# Altium schematic symbol library RES.SchLib: 149 symbols (part 2 of 2)
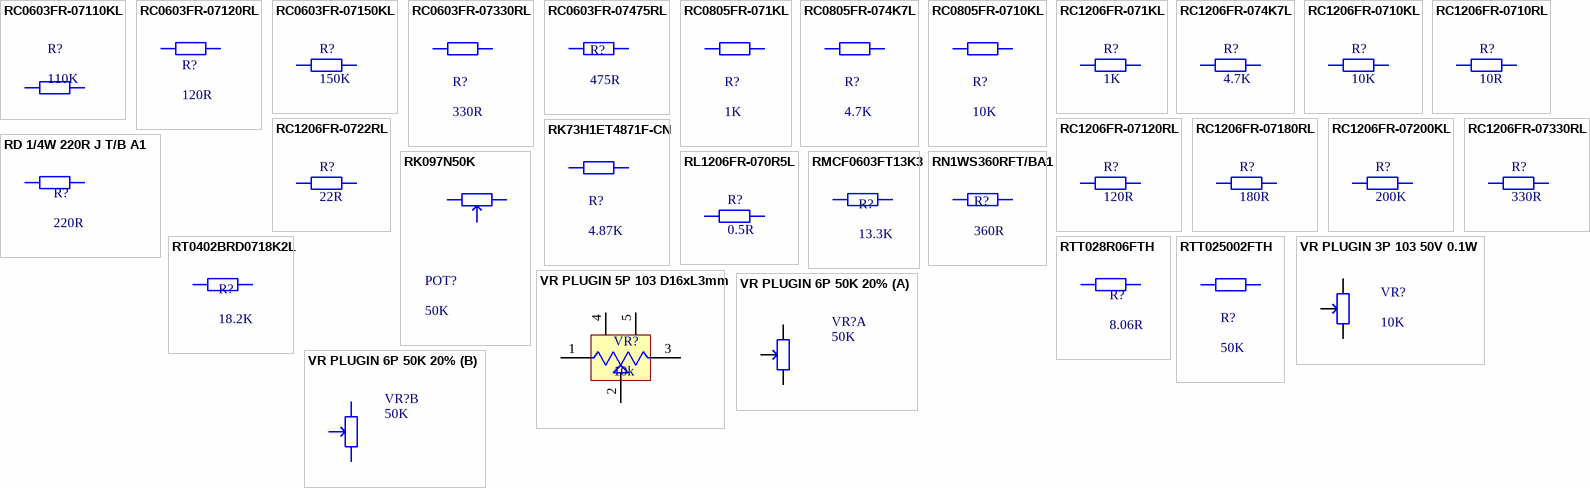
[diagram p4: symbols RC0603FR-07110KL to VR PLUGIN 6P 50K 20%]

## RC0805FR-074K7L
designator R?, comment 4.7K
125mW 4.7kΩ 150V ±100ppm/℃ Thick Film Resistor ±1% 0805 Chip Resistor - Surface Mount RoHS; Manufacturer: YAGEO; Mfr.Part #: RC0805FR-074K7L; Package: 0805; LCSC Part #: C60816; DigiKey Part Number: 311-4.70KCRTR-ND
footprint RES-0805-1
footprint RES-0805
pins: 1, 2

## RC0805FR-0710KL
designator R?, comment 10K
125mW 10kΩ 150V ±100ppm/℃ Thick Film Resistor ±1% 0805 Chip Resistor - Surface Mount RoHS; Manufacturer: YAGEO; Mfr.Part #: RC0805FR-0710KL; Package: 0805; LCSC Part #: C84376; DigiKey Part Number: 311-10.0KCRTR-ND
footprint RES-0805-1
footprint RES-0805
pins: 1, 2

## RC1206FR-071KL
designator R?, comment 1K
1kΩ 250mW 200V Thick Film Resistor ±100ppm/℃ ±1% 1206 Chip Resistor - Surface Mount RoHS; Manufacturer: YAGEO; Mfr.Part #: RC1206FR-071KL; LCSC Part #: C131398; Package: 1206; DigiKey Part Number: 311-1.00KFRTR-ND
footprint RES-1206
pins: 1, 2

## RC1206FR-074K7L
designator R?, comment 4.7K
4.7kΩ 250mW 200V Thick Film Resistor ±100ppm/℃ ±1% 1206 Chip Resistor - Surface Mount RoHS; Manufacturer: YAGEO; Mfr.Part #: RC1206FR-074K7L; Package: 1206; LCSC Part #: C137262; DigiKey Part Number: 311-4.70KFRTR-ND
footprint RES-1206
pins: 1, 2

## RC1206FR-0710KL
designator R?, comment 10K
250mW 10kΩ 200V Thick Film Resistor ±100ppm/℃ ±1% 1206 Chip Resistor - Surface Mount RoHS; Manufacturer: YAGEO; Mfr.Part #: RC1206FR-0710KL; LCSC Part #: C132649; Package: 1206; DigiKey Part Number: 311-10.0KFRTR-ND
footprint RES-1206
pins: 1, 2

## RC1206FR-0710RL
designator R?, comment 10R
10Ω 250mW 200V Thick Film Resistor ±1% ±200ppm/℃ 1206 Chip Resistor - Surface Mount RoHS; Manufacturer: YAGEO; Mfr.Part #: RC1206FR-0710RL; LCSC Part #: C108080; Package: 1206; DigiKey Part Number: 311-10.0FRTR-ND
footprint RES-1206
pins: 1, 2

## RC1206FR-0722RL
designator R?, comment 22R
22Ω 250mW 200V Thick Film Resistor ±100ppm/℃ ±1% 1206 Chip Resistor - Surface Mount RoHS; Manufacturer: YAGEO; Mfr.Part #: RC1206FR-0722RL; Package: 1206; LCSC Part #: C114943; DigiKey Part Number: 311-22.0FRTR-ND
footprint RES-1206
pins: 1, 2

## RC1206FR-07120RL
designator R?, comment 120R
120Ω 250mW 200V ±100ppm/℃ Thick Film Resistor ±1% 1206 Chip Resistor - Surface Mount RoHS; Manufacturer: YAGEO; Mfr.Part #: RC1206FR-07120RL; Package: 1206; LCSC Part #: C114928; DigiKey Part Number: 311-120FRTR-ND
footprint RES-1206
pins: 1, 2

## RC1206FR-07180RL
designator R?, comment 180R
180Ω 250mW 200V Thick Film Resistor ±100ppm/℃ ±1% 1206 Chip Resistor - Surface Mount RoHS; Manufacturer: YAGEO; Mfr.Part #: RC1206FR-07180RL; LCSC Part #: C137380; Package: 1206; DigiKey Part Number: 311-180FRTR-ND
footprint RES-1206
pins: 1, 2

## RC1206FR-07200KL
designator R?, comment 200K
200kΩ 250mW 200V Thick Film Resistor ±100ppm/℃ ±1% 1206 Chip Resistor - Surface Mount RoHS; Manufacturer: YAGEO; Mfr.Part #: RC1206FR-07200KL; Package: 1206; LCSC Part #: C114937; DigiKey Part Number: 311-200KFRTR-ND
footprint RES-1206
pins: 1, 2

## RC1206FR-07330RL
designator R?, comment 330R
250mW 330Ω 200V Thick Film Resistor ±100ppm/℃ ±1% 1206 Chip Resistor - Surface Mount RoHS; Manufacturer: YAGEO; Mfr.Part #: RC1206FR-07330RL; LCSC Part #: C114944; Package: 1206; DigiKey Part Number: 311-330FRTR-ND
footprint RES-1206
pins: 1, 2

## RD 1/4W 220R J T/B A1
designator R?, comment 220R
Carbon Film Resistor 220Ω 250mW 0ppm/℃~+500ppm/℃ ±5% Through Hole,D2.4xL6.5mm Through Hole Resistors ROHS; Manufacturer: TyoHM; Mfr.Part #: RD 1/4W 220R J T/B A1; Package: Through Hole,D2.4xL6.5mm; LCSC Part #: C433749; DigiKey Part Number: NO
footprint Plugin,D2.4xL6.5mm
pins: 1, 2

## RK73H1ET4871F-CN
designator R?, comment 4.87K
62.5mW 4.87kΩ Thick Film Resistor ±1% 0402 Chip Resistor - Surface Mount RoHS; Manufacturer: ChipNobo; Mfr.Part #: RK73H1ET4871F-CN; Package: 0402; LCSC Part #: C42396694; DigiKey Part Number: NO
footprint RES-0402
pins: 1, 2

## RK097N50K
designator POT?, comment 50K
±10%  50kΩ Through Hole Carbon Film Potentiometer; Mfr.Part #: RK097N50K; Manufacturer: uxcell; Package: Through Hole; LCSC Part #: NO; DigiKey Part Number: NO; ComponentLink1Description: Link; ComponentLink2Description: Link 1
footprint RK097N-1
pins: 1, 2, 3

## RL1206FR-070R5L
designator R?, comment 0.5R
250mW 500mΩ ±300ppm/℃ Thick Film Resistor ±1% 1206 Chip Resistor - Surface Mount RoHS; Manufacturer: YAGEO; Mfr.Part #: RL1206FR-070R5L; LCSC Part #: C327075; Package: 1206; DigiKey Part Number: 311-0.5LWTR-ND
footprint RES-1206
pins: 1, 2

## RMCF0603FT13K3
designator R?, comment 13.3K
13.3 kOhms ±1% 0.1W, 1/10W Chip Resistor 0603 (1608 Metric) Automotive AEC-Q200 Thick Film; Manufacturer: Stackpole Electronics Inc; Mfr.Part #: RMCF0603FT13K3; Package: 0603; DigiKey Part Number: RMCF0603FT13K3TR-ND
footprint RES-0603
pins: 1, 2

## RN1WS360RFT/BA1
designator R?, comment 360R
360Ω 1W 350V Metal Film Resistor ±50ppm/℃ ±1% Through Hole,D3.3xL9.2mm Through Hole Resistors RoHS; Manufacturer: YAGEO; Mfr.Part #: RN1WS360ΩFT/BA1; Package: Through Hole,D3.3xL9.2mm; LCSC Part #: C385379; DigiKey Part Number: NO; ComponentLink1Description: Link; ComponentLink1URL: https://www.lcsc.com/product-detail/C108661.html?s_z=n_33r; ComponentLink2Description: Link 1
footprint Plugin,D3.3xL9.2mm
pins: 1, 2

## RT0402BRD0718K2L
designator R?, comment 18.2K
62.5mW Thin Film Resistor 50V ±25ppm/℃ ±0.1% 18.2kΩ 0402 Chip Resistor - Surface Mount ROHS; Manufacturer: YAGEO; Mfr.Part #: RT0402BRD0718K2L; Package: 0402; LCSC Part #: C852578
footprint RES-0402
pins: 1, 2

## RTT028R06FTH
designator R?, comment 8.06R
62.5mW 8.06Ω 50V ±200ppm/℃ Thick Film Resistor ±1% 0402 Chip Resistor - Surface Mount ROHS; Manufacturer: RALEC; Mfr.Part #: RTT028R06FTH; Package: 0402; LCSC Part #: C166426
footprint RES-0402
pins: 1, 2

## RTT025002FTH
designator R?, comment 50K
50kΩ 62.5mW 50V ±100ppm/℃ Thick Film Resistor ±1% 0402 Chip Resistor - Surface Mount RoHS; Manufacturer: RALEC; Mfr.Part #: RTT025002FTH; Package: 0402; LCSC Part #: C166559; DigiKey Part Number: NO
footprint RES-0402
pins: 1, 2

## VR PLUGIN 3P 103 50V 0.1W
designator VR?, comment 10K
±25% 100mW 10kΩ Plugin Potentiometers, Variable Resistors ROHS; Manufacturer: BOCHEN(Chengdu Guosheng Tech); Mfr.Part #: RM063-103(10K); Name: VR PLUGIN 3P 103 50V 0.1W; So_Chan_Dan: 0; So_Chan_Cam: 3; Package: Plugin
footprint RM063
pins: 1, 2, 3

## VR PLUGIN 5P 103 D16xL3mm
designator VR?, comment 10k
Name: VR PLUGIN 5P 103 D16xL3mm; So_Chan_Cam: 3; So_Chan_Dan: 0; Mfr.Part #: ?; Manufacturer: ?; Package: ?; Link: ?
footprint BIEN_TRO_NGANG
pins: 1 CCW, 2 WIPER, 3 CW, 4, 5

## VR PLUGIN 6P 50K 20%
designator VR?, comment 50K
Through Hole; Package: Plugin
footprint VR-PLUGIN-2.5-6P-1
part A pins: 4, 5, 6
part B pins: 1, 2, 3